# Altium schematic symbol library SnapEDAsch.SchLib: 1 symbol
Pins are listed as number, name and electrical type; pins without a type are passive.

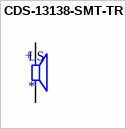
[diagram p0: symbol CDS-13138-SMT-TR]

## CDS-13138-SMT-TR
designator LS
13 mm, Square Frame, 0.7 W, 8 Ohm, Samarium Cobalt Magnet, Mylar Cone; MP: CDS-13138-SMT-TR; MF: CUI Devices; CUI_purchase_URL: https://www.cuidevices.com/product/audio/speakers/miniature-_10-mm~40-mm_/cds-13138-smt?utm_source=snapeda.com&utm_medium=referral&utm_campaign=snapedaBOM; SnapEDA_Link: https://www.snapeda.com/parts/CDS-13138-SMT-TR/CUI%20Devices/view-part/2770915/?ref=snap; Price: None; Package: CUI Inc.; Value: *; Availability: Unavailable
footprint SPKR_CDS-13138-SMT-TR
pins: M, P
text: +